# Altium schematic symbol library FPGA.SchLib: 1 symbol
Pins are listed as number, name and electrical type; pins without a type are passive.

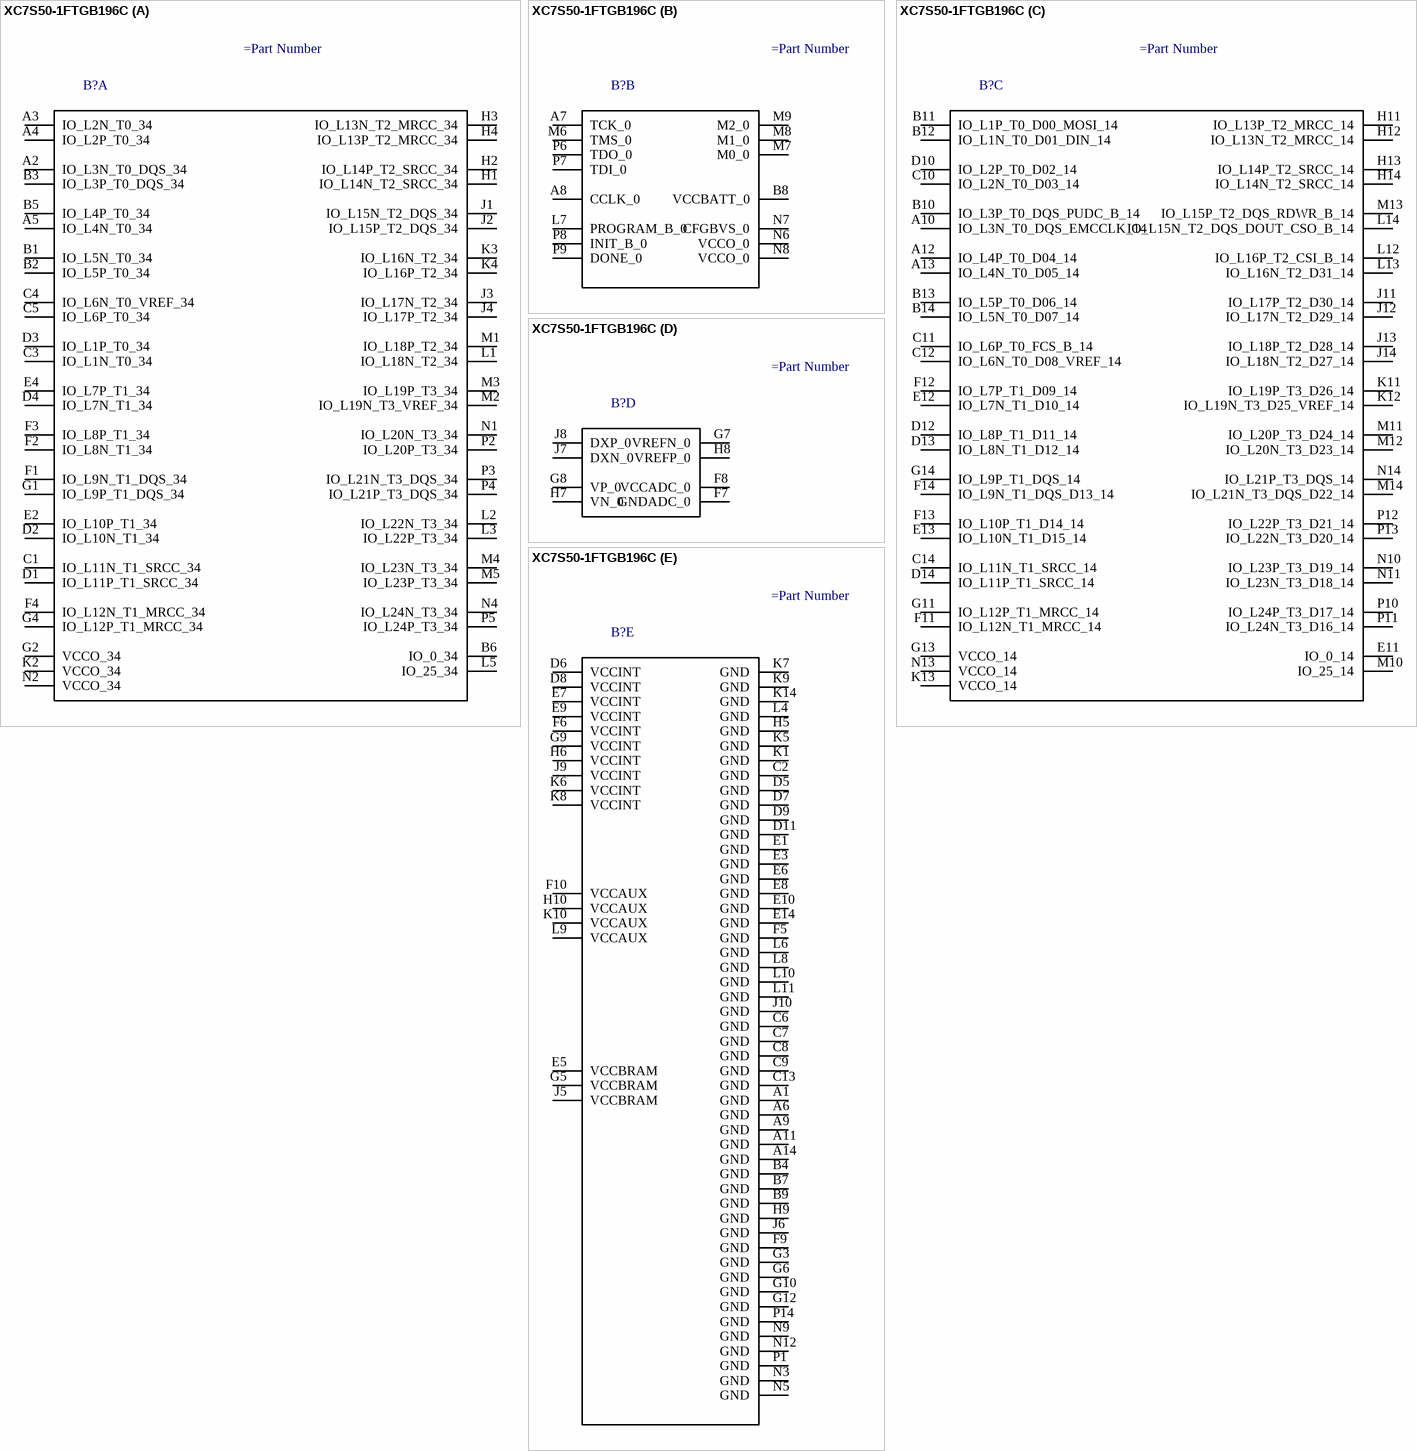
[diagram p0: symbol XC7S50-1FTGB196C]

## XC7S50-1FTGB196C
designator B?
part A pins: A2 IO_L3N_T0_DQS_34, A3 IO_L2N_T0_34, A4 IO_L2P_T0_34, A5 IO_L4N_T0_34, B1 IO_L5N_T0_34, B2 IO_L5P_T0_34, B3 IO_L3P_T0_DQS_34, B5 IO_L4P_T0_34, B6 IO_0_34, C1 IO_L11N_T1_SRCC_34, C3 IO_L1N_T0_34, C4 IO_L6N_T0_VREF_34, C5 IO_L6P_T0_34, D1 IO_L11P_T1_SRCC_34, D2 IO_L10N_T1_34, D3 IO_L1P_T0_34, D4 IO_L7N_T1_34, E2 IO_L10P_T1_34, E4 IO_L7P_T1_34, F1 IO_L9N_T1_DQS_34, F2 IO_L8N_T1_34, F3 IO_L8P_T1_34, F4 IO_L12N_T1_MRCC_34, G1 IO_L9P_T1_DQS_34, G2 VCCO_34, G4 IO_L12P_T1_MRCC_34, H1 IO_L14N_T2_SRCC_34, H2 IO_L14P_T2_SRCC_34, H3 IO_L13N_T2_MRCC_34, H4 IO_L13P_T2_MRCC_34, J1 IO_L15N_T2_DQS_34, J2 IO_L15P_T2_DQS_34, J3 IO_L17N_T2_34, J4 IO_L17P_T2_34, K2 VCCO_34, K3 IO_L16N_T2_34, K4 IO_L16P_T2_34, L1 IO_L18N_T2_34, L2 IO_L22N_T3_34, L3 IO_L22P_T3_34, L5 IO_25_34, M1 IO_L18P_T2_34, M2 IO_L19N_T3_VREF_34, M3 IO_L19P_T3_34, M4 IO_L23N_T3_34, M5 IO_L23P_T3_34, N1 IO_L20N_T3_34, N2 VCCO_34, N4 IO_L24N_T3_34, P2 IO_L20P_T3_34, P3 IO_L21N_T3_DQS_34, P4 IO_L21P_T3_DQS_34, P5 IO_L24P_T3_34
part B pins: A7 TCK_0, A8 CCLK_0, B8 VCCBATT_0, L7 PROGRAM_B_0, M6 TMS_0, M7 M0_0, M8 M1_0, M9 M2_0, N6 VCCO_0, N7 CFGBVS_0, N8 VCCO_0, P6 TDO_0, P7 TDI_0, P8 INIT_B_0, P9 DONE_0
part C pins: A10 IO_L3N_T0_DQS_EMCCLK_14, A12 IO_L4P_T0_D04_14, A13 IO_L4N_T0_D05_14, B10 IO_L3P_T0_DQS_PUDC_B_14, B11 IO_L1P_T0_D00_MOSI_14, B12 IO_L1N_T0_D01_DIN_14, B13 IO_L5P_T0_D06_14, B14 IO_L5N_T0_D07_14, C10 IO_L2N_T0_D03_14, C11 IO_L6P_T0_FCS_B_14, C12 IO_L6N_T0_D08_VREF_14, C14 IO_L11N_T1_SRCC_14, D10 IO_L2P_T0_D02_14, D12 IO_L8P_T1_D11_14, D13 IO_L8N_T1_D12_14, D14 IO_L11P_T1_SRCC_14, E11 IO_0_14, E12 IO_L7N_T1_D10_14, E13 IO_L10N_T1_D15_14, F11 IO_L12N_T1_MRCC_14, F12 IO_L7P_T1_D09_14, F13 IO_L10P_T1_D14_14, F14 IO_L9N_T1_DQS_D13_14, G11 IO_L12P_T1_MRCC_14, G13 VCCO_14, G14 IO_L9P_T1_DQS_14, H11 IO_L13P_T2_MRCC_14, H12 IO_L13N_T2_MRCC_14, H13 IO_L14P_T2_SRCC_14, H14 IO_L14N_T2_SRCC_14, J11 IO_L17P_T2_D30_14, J12 IO_L17N_T2_D29_14, J13 IO_L18P_T2_D28_14, J14 IO_L18N_T2_D27_14, K11 IO_L19P_T3_D26_14, K12 IO_L19N_T3_D25_VREF_14, K13 VCCO_14, L12 IO_L16P_T2_CSI_B_14, L13 IO_L16N_T2_D31_14, L14 IO_L15N_T2_DQS_DOUT_CSO_B_14, M10 IO_25_14, M11 IO_L20P_T3_D24_14, M12 IO_L20N_T3_D23_14, M13 IO_L15P_T2_DQS_RDWR_B_14, M14 IO_L21N_T3_DQS_D22_14, N10 IO_L23P_T3_D19_14, N11 IO_L23N_T3_D18_14, N13 VCCO_14, N14 IO_L21P_T3_DQS_14, P10 IO_L24P_T3_D17_14, P11 IO_L24N_T3_D16_14, P12 IO_L22P_T3_D21_14, P13 IO_L22N_T3_D20_14
part D pins: F7 GNDADC_0, F8 VCCADC_0, G7 VREFN_0, G8 VP_0, H7 VN_0, H8 VREFP_0, J7 DXN_0, J8 DXP_0
part E pins: A1 GND, A6 GND, A9 GND, A11 GND, A14 GND, B4 GND, B7 GND, B9 GND, C2 GND, C6 GND, C7 GND, C8 GND, C9 GND, C13 GND, D5 GND, D6 VCCINT, D7 GND, D8 VCCINT, D9 GND, D11 GND, E1 GND, E3 GND, E5 VCCBRAM, E6 GND, E7 VCCINT, E8 GND, E9 VCCINT, E10 GND, E14 GND, F5 GND, F6 VCCINT, F9 GND, F10 VCCAUX, G3 GND, G5 VCCBRAM, G6 GND, G9 VCCINT, G10 GND, G12 GND, H5 GND, H6 VCCINT, H9 GND, H10 VCCAUX, J5 VCCBRAM, J6 GND, J9 VCCINT, J10 GND, K1 GND, K5 GND, K6 VCCINT, K7 GND, K8 VCCINT, K9 GND, K10 VCCAUX, K14 GND, L4 GND, L6 GND, L8 GND, L9 VCCAUX, L10 GND, L11 GND, N3 GND, N5 GND, N9 GND, N12 GND, P1 GND, P14 GND